# Altium footprint library Zarlink Footprints.PcbLib: 95 footprints (part 1 of 6)
Each footprint in its own frame and in the unit in brackets; x right, y up, seen from the top. Pads: shape width x height; smd on the part's side, far side on the other; paste and mask are expansions set on the pad; w line width, h text height; cw(c..) or ccw(c..) is an arc to the next point about the centre after c.
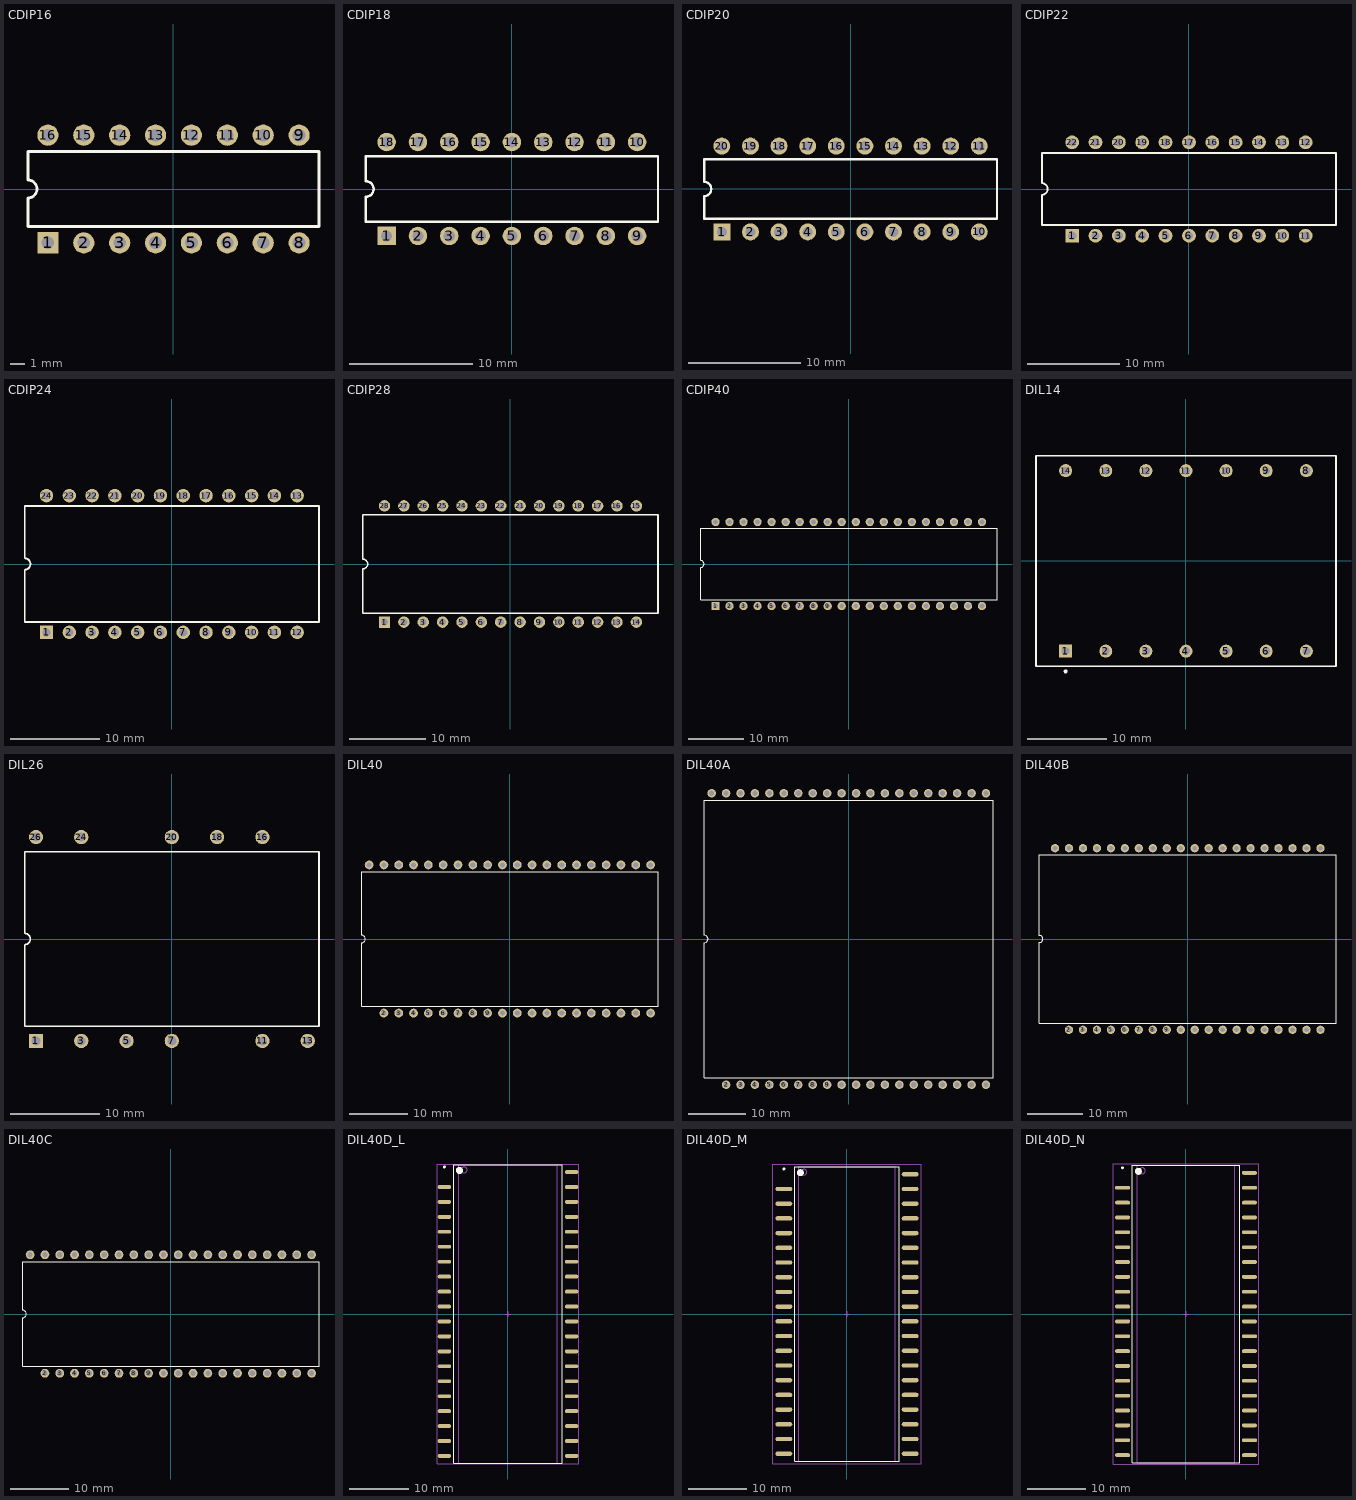
[diagram p0: the footprints below, top view; thin cyan lines are the x and y axes]

## CDIP16 [mm] "DIP; 16 Leads; Row Spacing 7.62 mm; Pitch 2.54 mm"
height 5.08
pads (16):
  rect 1.5x1.5 hole 0.9: 1(-8.89,-3.81)
  round 1.5 hole 0.9: 2(-6.35,-3.81) 3(-3.81,-3.81) 4(-1.27,-3.81) 5(1.27,-3.81) 6(3.81,-3.81) 7(6.35,-3.81) 8(8.89,-3.81) 9(8.89,3.81) 10(6.35,3.81) 11(3.81,3.81) 12(1.27,3.81) 13(-1.27,3.81) 14(-3.81,3.81) 15(-6.35,3.81) 16(-8.89,3.81)
Top Overlay:
  lines w0.2: -10.3,-2.65 10.3,-2.65 10.3,2.65 -10.3,2.65 -10.3,0.635 cw(c-10.3,0) -10.3,-0.635 -10.3,-2.65

## CDIP18 [mm] "DIP; 18 Leads; Row Spacing 7.62 mm; Pitch 2.54 mm"
height 5.08
pads (18):
  rect 1.5x1.5 hole 0.9: 1(-10.16,-3.81)
  round 1.5 hole 0.9: 2(-7.62,-3.81) 3(-5.08,-3.81) 4(-2.54,-3.81) 5(0,-3.81) 6(2.54,-3.81) 7(5.08,-3.81) 8(7.62,-3.81) 9(10.16,-3.81) 10(10.16,3.81) 11(7.62,3.81) 12(5.08,3.81) 13(2.54,3.81) 14(0,3.81) 15(-2.54,3.81) 16(-5.08,3.81) 17(-7.62,3.81) 18(-10.16,3.81)
Top Overlay:
  lines w0.2: -11.85,-2.65 11.85,-2.65 11.85,2.65 -11.85,2.65 -11.85,0.635 cw(c-11.85,0) -11.85,-0.635 -11.85,-2.65

## CDIP20 [mm] "DIP; 20 Leads; Row Spacing 7.62 mm; Pitch 2.54 mm"
height 5.08
pads (20):
  rect 1.5x1.5 hole 0.9: 1(-11.43,-3.81)
  round 1.5 hole 0.9: 2(-8.89,-3.81) 3(-6.35,-3.81) 4(-3.81,-3.81) 5(-1.27,-3.81) 6(1.27,-3.81) 7(3.81,-3.81) 8(6.35,-3.81) 9(8.89,-3.81) 10(11.43,-3.81) 11(11.43,3.81) 12(8.89,3.81) 13(6.35,3.81) 14(3.81,3.81) 15(1.27,3.81) 16(-1.27,3.81) 17(-3.81,3.81) 18(-6.35,3.81) 19(-8.89,3.81) 20(-11.43,3.81)
Top Overlay:
  lines w0.2: -13,-2.65 -13,-0.635 ccw(c-13,0) -13,0.635 -13,2.65 13,2.65 13,-2.65 -13,-2.65

## CDIP22 [mm] "DIP; 22 Leads; Row Spacing 10.16 mm; Pitch 2.54 mm"
height 5.71
pads (22):
  rect 1.5x1.5 hole 0.9: 1(-12.7,-5.08)
  round 1.5 hole 0.9: 2(-10.16,-5.08) 3(-7.62,-5.08) 4(-5.08,-5.08) 5(-2.54,-5.08) 6(0,-5.08) 7(2.54,-5.08) 8(5.08,-5.08) 9(7.62,-5.08) 10(10.16,-5.08) 11(12.7,-5.08) 12(12.7,5.08) 13(10.16,5.08) 14(7.62,5.08) 15(5.08,5.08) 16(2.54,5.08) 17(0,5.08) 18(-2.54,5.08) 19(-5.08,5.08) 20(-7.62,5.08) 21(-10.16,5.08) 22(-12.7,5.08)
Top Overlay:
  lines w0.2: -16,-3.9 16,-3.9 16,3.9 -16,3.9 -16,0.635 cw(c-16,0) -16,-0.635 -16,-3.9

## CDIP24 [mm] "DIP; 24 Leads; Row Spacing 15.24 mm; Pitch 2.54 mm"
height 4.8
pads (24):
  rect 1.5x1.5 hole 0.9: 1(-13.97,-7.62)
  round 1.5 hole 0.9: 2(-11.43,-7.62) 3(-8.89,-7.62) 4(-6.35,-7.62) 5(-3.81,-7.62) 6(-1.27,-7.62) 7(1.27,-7.62) 8(3.81,-7.62) 9(6.35,-7.62) 10(8.89,-7.62) 11(11.43,-7.62) 12(13.97,-7.62) 13(13.97,7.62) 14(11.43,7.62) 15(8.89,7.62) 16(6.35,7.62) 17(3.81,7.62) 18(1.27,7.62) 19(-1.27,7.62) 20(-3.81,7.62) 21(-6.35,7.62) 22(-8.89,7.62) 23(-11.43,7.62) 24(-13.97,7.62)
Top Overlay:
  lines w0.2: -16.4,-6.45 -16.4,-0.635 ccw(c-16.4,0) -16.4,0.635 -16.4,6.45 16.4,6.45 16.4,-6.45 -16.4,-6.45

## CDIP28 [mm] "DIP; 28 Leads; Row Spacing 15.24 mm; Pitch 2.54 mm"
height 4.8
pads (28):
  rect 1.5x1.5 hole 0.9: 1(-16.51,-7.62)
  round 1.5 hole 0.9: 2(-13.97,-7.62) 3(-11.43,-7.62) 4(-8.89,-7.62) 5(-6.35,-7.62) 6(-3.81,-7.62) 7(-1.27,-7.62) 8(1.27,-7.62) 9(3.81,-7.62) 10(6.35,-7.62) 11(8.89,-7.62) 12(11.43,-7.62) 13(13.97,-7.62) 14(16.51,-7.62) 15(16.51,7.62) 16(13.97,7.62) 17(11.43,7.62) 18(8.89,7.62) 19(6.35,7.62) 20(3.81,7.62) 21(1.27,7.62) 22(-1.27,7.62) 23(-3.81,7.62) 24(-6.35,7.62) 25(-8.89,7.62) 26(-11.43,7.62) 27(-13.97,7.62) 28(-16.51,7.62)
Top Overlay:
  lines w0.2: -19.35,-6.45 -19.35,-0.635 ccw(c-19.35,0) -19.35,0.635 -19.35,6.45 19.35,6.45 19.35,-6.45 -19.35,-6.45

## CDIP40 [mm] "DIP; 40 Leads; Row Spacing 15.24 mm; Pitch 2.54 mm"
height 4.8
pads (40):
  rect 1.5x1.5 hole 0.9: 1(-24.13,-7.62)
  round 1.5 hole 0.9: 2(-21.59,-7.62) 3(-19.05,-7.62) 4(-16.51,-7.62) 5(-13.97,-7.62) 6(-11.43,-7.62) 7(-8.89,-7.62) 8(-6.35,-7.62) 9(-3.81,-7.62) 10(-1.27,-7.62) 11(1.27,-7.62) 12(3.81,-7.62) 13(6.35,-7.62) 14(8.89,-7.62) 15(11.43,-7.62) 16(13.97,-7.62) 17(16.51,-7.62) 18(19.05,-7.62) 19(21.59,-7.62) 20(24.13,-7.62) 21(24.13,7.62) 22(21.59,7.62) 23(19.05,7.62) 24(16.51,7.62) 25(13.97,7.62) 26(11.43,7.62) 27(8.89,7.62) 28(6.35,7.62) 29(3.81,7.62) 30(1.27,7.62) 31(-1.27,7.62) 32(-3.81,7.62) 33(-6.35,7.62) 34(-8.89,7.62) 35(-11.43,7.62) 36(-13.97,7.62) 37(-16.51,7.62) 38(-19.05,7.62) 39(-21.59,7.62) 40(-24.13,7.62)
Top Overlay:
  lines w0.2: -26.85,-6.45 -26.85,-0.635 ccw(c-26.85,0) -26.85,0.635 -26.85,6.45 26.85,6.45 26.85,-6.45 -26.85,-6.45

## DIL14 [mm] "DIP; 14 Round Pins; Row Space 22.86 mm; Pitch 5.08 mm"
height 8.9
pads (14):
  rect 1.65x1.65 hole 1: 1(-15.24,-11.43)
  round 1.65 hole 1: 2(-10.16,-11.43) 3(-5.08,-11.43) 4(0,-11.43) 5(5.08,-11.43) 6(10.16,-11.43) 7(15.24,-11.43) 8(15.24,11.43) 9(10.16,11.43) 10(5.08,11.43) 11(0,11.43) 12(-5.08,11.43) 13(-10.16,11.43) 14(-15.24,11.43)
Top Overlay:
  circle w0.25: c-15.24,-14 r0.125
  lines w0.2: -19,-13.35 -19,-0.635 -19,13.35 19,13.35 19,-13.35 -19,-13.35

## DIL26 [mm] "DIP; 26 Leads (15 Absent); Row Spacing 22.86 mm; Pitch 2.54 mm"
height 6.9
pads (11):
  rect 1.6x1.6 hole 1: 1(-15.24,-11.43)
  round 1.6 hole 1: 3(-10.16,-11.43) 5(-5.08,-11.43) 7(0,-11.43) 11(10.16,-11.43) 13(15.24,-11.43) 16(10.16,11.43) 18(5.08,11.43) 20(0,11.43) 24(-10.16,11.43) 26(-15.24,11.43)
Top Overlay:
  lines w0.2: -16.51,-9.795 -16.51,-0.635 ccw(c-16.51,0) -16.51,0.635 -16.51,9.795 16.51,9.795 16.51,-9.795 -16.51,-9.795

## DIL40 [mm] "DIP; 40 Leads (1 Absent); Row Spacing 25.4 mm; Pitch 2.54 mm"
height 7.62
pads (39):
  round 1.5 hole 0.9: 2(-21.59,-12.7) 3(-19.05,-12.7) 4(-16.51,-12.7) 5(-13.97,-12.7) 6(-11.43,-12.7) 7(-8.89,-12.7) 8(-6.35,-12.7) 9(-3.81,-12.7) 10(-1.27,-12.7) 11(1.27,-12.7) 12(3.81,-12.7) 13(6.35,-12.7) 14(8.89,-12.7) 15(11.43,-12.7) 16(13.97,-12.7) 17(16.51,-12.7) 18(19.05,-12.7) 19(21.59,-12.7) 20(24.13,-12.7) 21(24.13,12.7) 22(21.59,12.7) 23(19.05,12.7) 24(16.51,12.7) 25(13.97,12.7) 26(11.43,12.7) 27(8.89,12.7) 28(6.35,12.7) 29(3.81,12.7) 30(1.27,12.7) 31(-1.27,12.7) 32(-3.81,12.7) 33(-6.35,12.7) 34(-8.89,12.7) 35(-11.43,12.7) 36(-13.97,12.7) 37(-16.51,12.7) 38(-19.05,12.7) 39(-21.59,12.7) 40(-24.13,12.7)
Top Overlay:
  lines w0.2: -25.4,-11.55 -25.4,-0.635 ccw(c-25.4,0) -25.4,0.635 -25.4,11.55 25.4,11.55 25.4,-11.55 -25.4,-11.55

## DIL40A [mm] "DIP; 40 Leads (1 Absent); Row Spacing 51.269 mm; Pitch 2.54 mm"
height 7.3
pads (39):
  round 1.5 hole 0.9: 2(-21.59,-25.635) 3(-19.05,-25.635) 4(-16.51,-25.635) 5(-13.97,-25.635) 6(-11.43,-25.635) 7(-8.89,-25.635) 8(-6.35,-25.635) 9(-3.81,-25.635) 10(-1.27,-25.635) 11(1.27,-25.635) 12(3.81,-25.635) 13(6.35,-25.635) 14(8.89,-25.635) 15(11.43,-25.635) 16(13.97,-25.635) 17(16.51,-25.635) 18(19.05,-25.635) 19(21.59,-25.635) 20(24.13,-25.635) 21(24.13,25.635) 22(21.59,25.635) 23(19.05,25.635) 24(16.51,25.635) 25(13.97,25.635) 26(11.43,25.635) 27(8.89,25.635) 28(6.35,25.635) 29(3.81,25.635) 30(1.27,25.635) 31(-1.27,25.635) 32(-3.81,25.635) 33(-6.35,25.635) 34(-8.89,25.635) 35(-11.43,25.635) 36(-13.97,25.635) 37(-16.51,25.635) 38(-19.05,25.635) 39(-21.59,25.635) 40(-24.13,25.635)
Top Overlay:
  lines w0.2: -25.4,-24.45 -25.4,-0.635 ccw(c-25.4,0) -25.4,0.635 -25.4,24.45 25.4,24.45 25.4,-24.45 -25.4,-24.45

## DIL40B [mm] "DIP; 40 Leads (1 Absent); Row Spacing 33 mm; Pitch 2.54 mm"
height 10.17
pads (39):
  round 1.5 hole 0.9: 2(-21.59,-16.5) 3(-19.05,-16.5) 4(-16.51,-16.5) 5(-13.97,-16.5) 6(-11.43,-16.5) 7(-8.89,-16.5) 8(-6.35,-16.5) 9(-3.81,-16.5) 10(-1.27,-16.5) 11(1.27,-16.5) 12(3.81,-16.5) 13(6.35,-16.5) 14(8.89,-16.5) 15(11.43,-16.5) 16(13.97,-16.5) 17(16.51,-16.5) 18(19.05,-16.5) 19(21.59,-16.5) 20(24.13,-16.5) 21(24.13,16.5) 22(21.59,16.5) 23(19.05,16.5) 24(16.51,16.5) 25(13.97,16.5) 26(11.43,16.5) 27(8.89,16.5) 28(6.35,16.5) 29(3.81,16.5) 30(1.27,16.5) 31(-1.27,16.5) 32(-3.81,16.5) 33(-6.35,16.5) 34(-8.89,16.5) 35(-11.43,16.5) 36(-13.97,16.5) 37(-16.51,16.5) 38(-19.05,16.5) 39(-21.59,16.5) 40(-24.13,16.5)
Top Overlay:
  lines w0.2: -26.95,-15.35 26.95,-15.35 26.95,15.35 -26.95,15.35 -26.95,0.635 cw(c-26.95,0) -26.95,-0.635 -26.95,-15.35

## DIL40C [mm] "DIP; 40 Leads (1 Absent); Row Spacing 20.32 mm; Pitch 2.54 mm"
height 8.65
pads (39):
  round 1.5 hole 0.9: 2(-21.59,-10.16) 3(-19.05,-10.16) 4(-16.51,-10.16) 5(-13.97,-10.16) 6(-11.43,-10.16) 7(-8.89,-10.16) 8(-6.35,-10.16) 9(-3.81,-10.16) 10(-1.27,-10.16) 11(1.27,-10.16) 12(3.81,-10.16) 13(6.35,-10.16) 14(8.89,-10.16) 15(11.43,-10.16) 16(13.97,-10.16) 17(16.51,-10.16) 18(19.05,-10.16) 19(21.59,-10.16) 20(24.13,-10.16) 21(24.13,10.16) 22(21.59,10.16) 23(19.05,10.16) 24(16.51,10.16) 25(13.97,10.16) 26(11.43,10.16) 27(8.89,10.16) 28(6.35,10.16) 29(3.81,10.16) 30(1.27,10.16) 31(-1.27,10.16) 32(-3.81,10.16) 33(-6.35,10.16) 34(-8.89,10.16) 35(-11.43,10.16) 36(-13.97,10.16) 37(-16.51,10.16) 38(-19.05,10.16) 39(-21.59,10.16) 40(-24.13,10.16)
Top Overlay:
  lines w0.2: -25.4,-9 -25.4,-0.635 ccw(c-25.4,0) -25.4,0.635 -25.4,9 25.4,9 25.4,-9 -25.4,-9

## DIL40D_L [mm] "40-Pin Small Outline Package 2.54 mm Pitch, IPC High Density"
height 9.53
pads (39):
  oval 2.3x0.65 smd: 2(-10.8,21.59) 3(-10.8,19.05) 4(-10.8,16.51) 5(-10.8,13.97) 6(-10.8,11.43) 7(-10.8,8.89) 8(-10.8,6.35) 9(-10.8,3.81) 10(-10.8,1.27) 11(-10.8,-1.27) 12(-10.8,-3.81) 13(-10.8,-6.35) 14(-10.8,-8.89) 15(-10.8,-11.43) 16(-10.8,-13.97) 17(-10.8,-16.51) 18(-10.8,-19.05) 19(-10.8,-21.59) 20(-10.8,-24.13) 21(10.8,-24.13) 22(10.8,-21.59) 23(10.8,-19.05) 24(10.8,-16.51) 25(10.8,-13.97) 26(10.8,-11.43) 27(10.8,-8.89) 28(10.8,-6.35) 29(10.8,-3.81) 30(10.8,-1.27) 31(10.8,1.27) 32(10.8,3.81) 33(10.8,6.35) 34(10.8,8.89) 35(10.8,11.43) 36(10.8,13.97) 37(10.8,16.51) 38(10.8,19.05) 39(10.8,21.59) 40(10.8,24.13)
Top Overlay:
  circle w0.6: c-8.25,24.4 r0.3
  circle w0.25: c-10.8,25.005 r0.125
  lines w0.2: -9.25,-25.4 9.25,-25.4 9.25,25.4 -9.25,25.4 -9.25,-25.4
Mechanical 13:
  circle w0.1: c-7.45,24.5 r0.5
  lines w0.1: -8.35,-25.4 8.35,-25.4 8.35,25.4 -8.35,25.4 -8.35,-25.4
Mechanical 15:
  lines w0.1: -0.5,0 0.5,0 ; 0,-0.5 0,0.5 ; -12.05,-25.5 12.05,-25.5 12.05,25.5 -12.05,25.5 -12.05,-25.5
3D body: height 9.53, standoff 0, extent -8.35,-25.4 8.35,25.4

## DIL40D_M [mm] "40-Pin Small Outline Package 2.54 mm Pitch, IPC Low Density"
height 9.53
pads (39):
  oval 2.9x0.75 smd: 2(-10.9,21.59) 3(-10.9,19.05) 4(-10.9,16.51) 5(-10.9,13.97) 6(-10.9,11.43) 7(-10.9,8.89) 8(-10.9,6.35) 9(-10.9,3.81) 10(-10.9,1.27) 11(-10.9,-1.27) 12(-10.9,-3.81) 13(-10.9,-6.35) 14(-10.9,-8.89) 15(-10.9,-11.43) 16(-10.9,-13.97) 17(-10.9,-16.51) 18(-10.9,-19.05) 19(-10.9,-21.59) 20(-10.9,-24.13) 21(10.9,-24.13) 22(10.9,-21.59) 23(10.9,-19.05) 24(10.9,-16.51) 25(10.9,-13.97) 26(10.9,-11.43) 27(10.9,-8.89) 28(10.9,-6.35) 29(10.9,-3.81) 30(10.9,-1.27) 31(10.9,1.27) 32(10.9,3.81) 33(10.9,6.35) 34(10.9,8.89) 35(10.9,11.43) 36(10.9,13.97) 37(10.9,16.51) 38(10.9,19.05) 39(10.9,21.59) 40(10.9,24.13)
Top Overlay:
  circle w0.25: c-10.9,25.055 r0.125
  circle w0.6: c-8.05,24.4 r0.3
  lines w0.2: -9.05,-25.4 -9.05,25.4 9.05,25.4 9.05,-25.4 -9.05,-25.4
Mechanical 13:
  circle w0.1: c-7.45,24.5 r0.5
  lines w0.1: -8.35,-25.4 -8.35,25.4 8.35,25.4 8.35,-25.4 -8.35,-25.4
Mechanical 15:
  lines w0.1: -0.5,0 0.5,0 ; 0,-0.5 0,0.5 ; -12.85,-25.9 -12.85,25.9 12.85,25.9 12.85,-25.9 -12.85,-25.9
3D body: height 9.53, standoff 0, extent -8.35,-25.4 8.35,25.4

## DIL40D_N [mm] "40-Pin Small Outline Package 2.54 mm Pitch, IPC Medium Density"
height 9.53
pads (39):
  oval 2.6x0.65 smd: 2(-10.85,21.59) 3(-10.85,19.05) 4(-10.85,16.51) 5(-10.85,13.97) 6(-10.85,11.43) 7(-10.85,8.89) 8(-10.85,6.35) 9(-10.85,3.81) 10(-10.85,1.27) 11(-10.85,-1.27) 12(-10.85,-3.81) 13(-10.85,-6.35) 14(-10.85,-8.89) 15(-10.85,-11.43) 16(-10.85,-13.97) 17(-10.85,-16.51) 18(-10.85,-19.05) 19(-10.85,-21.59) 20(-10.85,-24.13) 21(10.85,-24.13) 22(10.85,-21.59) 23(10.85,-19.05) 24(10.85,-16.51) 25(10.85,-13.97) 26(10.85,-11.43) 27(10.85,-8.89) 28(10.85,-6.35) 29(10.85,-3.81) 30(10.85,-1.27) 31(10.85,1.27) 32(10.85,3.81) 33(10.85,6.35) 34(10.85,8.89) 35(10.85,11.43) 36(10.85,13.97) 37(10.85,16.51) 38(10.85,19.05) 39(10.85,21.59) 40(10.85,24.13)
Top Overlay:
  circle w0.25: c-10.85,25.005 r0.125
  circle w0.6: c-8.15,24.4 r0.3
  lines w0.2: -9.15,-25.4 -9.15,25.4 9.15,25.4 9.15,-25.4 -9.15,-25.4
Mechanical 13:
  circle w0.1: c-7.45,24.5 r0.5
  lines w0.1: -8.35,-25.4 -8.35,25.4 8.35,25.4 8.35,-25.4 -8.35,-25.4
Mechanical 15:
  lines w0.1: -0.5,0 0.5,0 ; 0,-0.5 0,0.5 ; -12.4,-25.65 -12.4,25.65 12.4,25.65 12.4,-25.65 -12.4,-25.65
3D body: height 9.53, standoff 0, extent -8.35,-25.4 8.35,25.4